# Altium schematic symbol library LED_switch.SchLib: 1 symbol
Pins are listed as number, name and electrical type; pins without a type are passive.

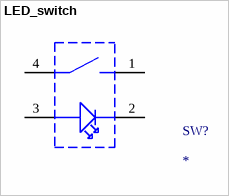
[diagram p0: symbol LED_switch]

## LED_switch
designator SW?
pins: 1, 2, 3, 4